# Altium footprint library I7C4W008A120V-003-R.PcbLib: 1 footprints
Each footprint in its own frame and in the unit in brackets; x right, y up, seen from the top. Pads: shape width x height; smd on the part's side, far side on the other; paste and mask are expansions set on the pad; w line width, h text height; cw(c..) or ccw(c..) is an arc to the next point about the centre after c.
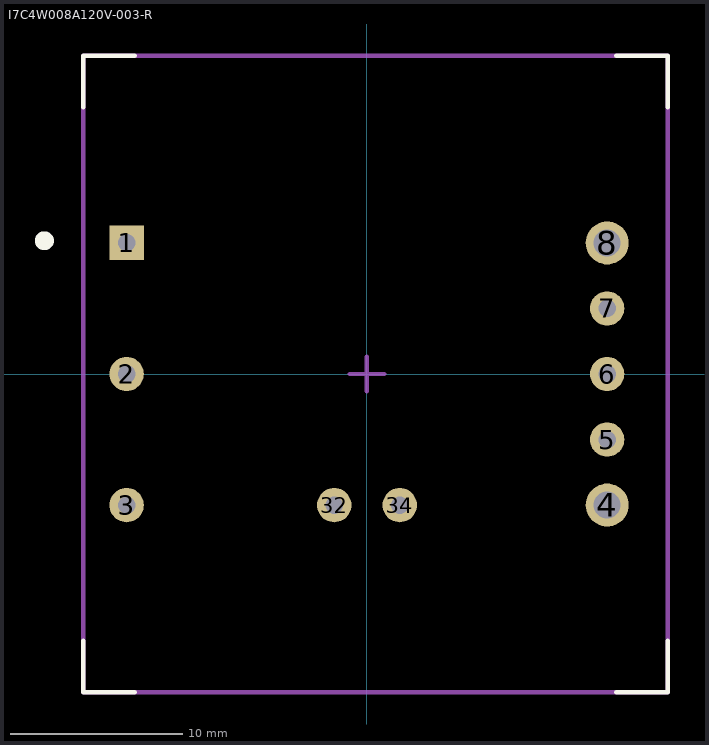
[diagram p0: the footprint, top view; thin cyan lines are the x and y axes]

## I7C4W008A120V-003-R [mm]
pads (10):
  rect 2x2 hole 1.02 mask+0: 1(-13.97,7.62)
  round 2 hole 1.02 mask+0: 2(-13.97,0) 3(-13.97,-7.62) 5(13.97,-3.81) 6(13.97,0) 7(13.97,3.81) 32(-1.9,-7.62) 34(1.91,-7.62)
  round 2.5 hole 1.57 mask+0: 4(13.97,-7.62) 8(13.97,7.62)
Top Overlay:
  circle w0.6: c-18.75,7.75 r0.25
  lines w0.254: -16.5,-15.5 -16.5,-18.5 -13.5,-18.5 ; -16.5,15.5 -16.5,18.5 -13.5,18.5 ; 14.5,-18.5 17.5,-18.5 17.5,-15.5 ; 14.5,18.5 17.5,18.5 17.5,15.5
Mechanical 13:
  lines w0.254: -16.5,-18.5 17.5,-18.5 17.5,18.5 -16.5,18.5 -16.5,-18.5
Mechanical 15:
  lines w0.254: -1,0 1,0 ; 0,-1 0,1
3D body "I7C4W008A120V-003-R.STEP": height 12.71, standoff -3.67, extent -16.5,-18.415 17.536,18.415